# Altium schematic symbol library SOC_Carrier.SchLib: 9 symbols
Pins are listed as number, name and electrical type; pins without a type are passive.

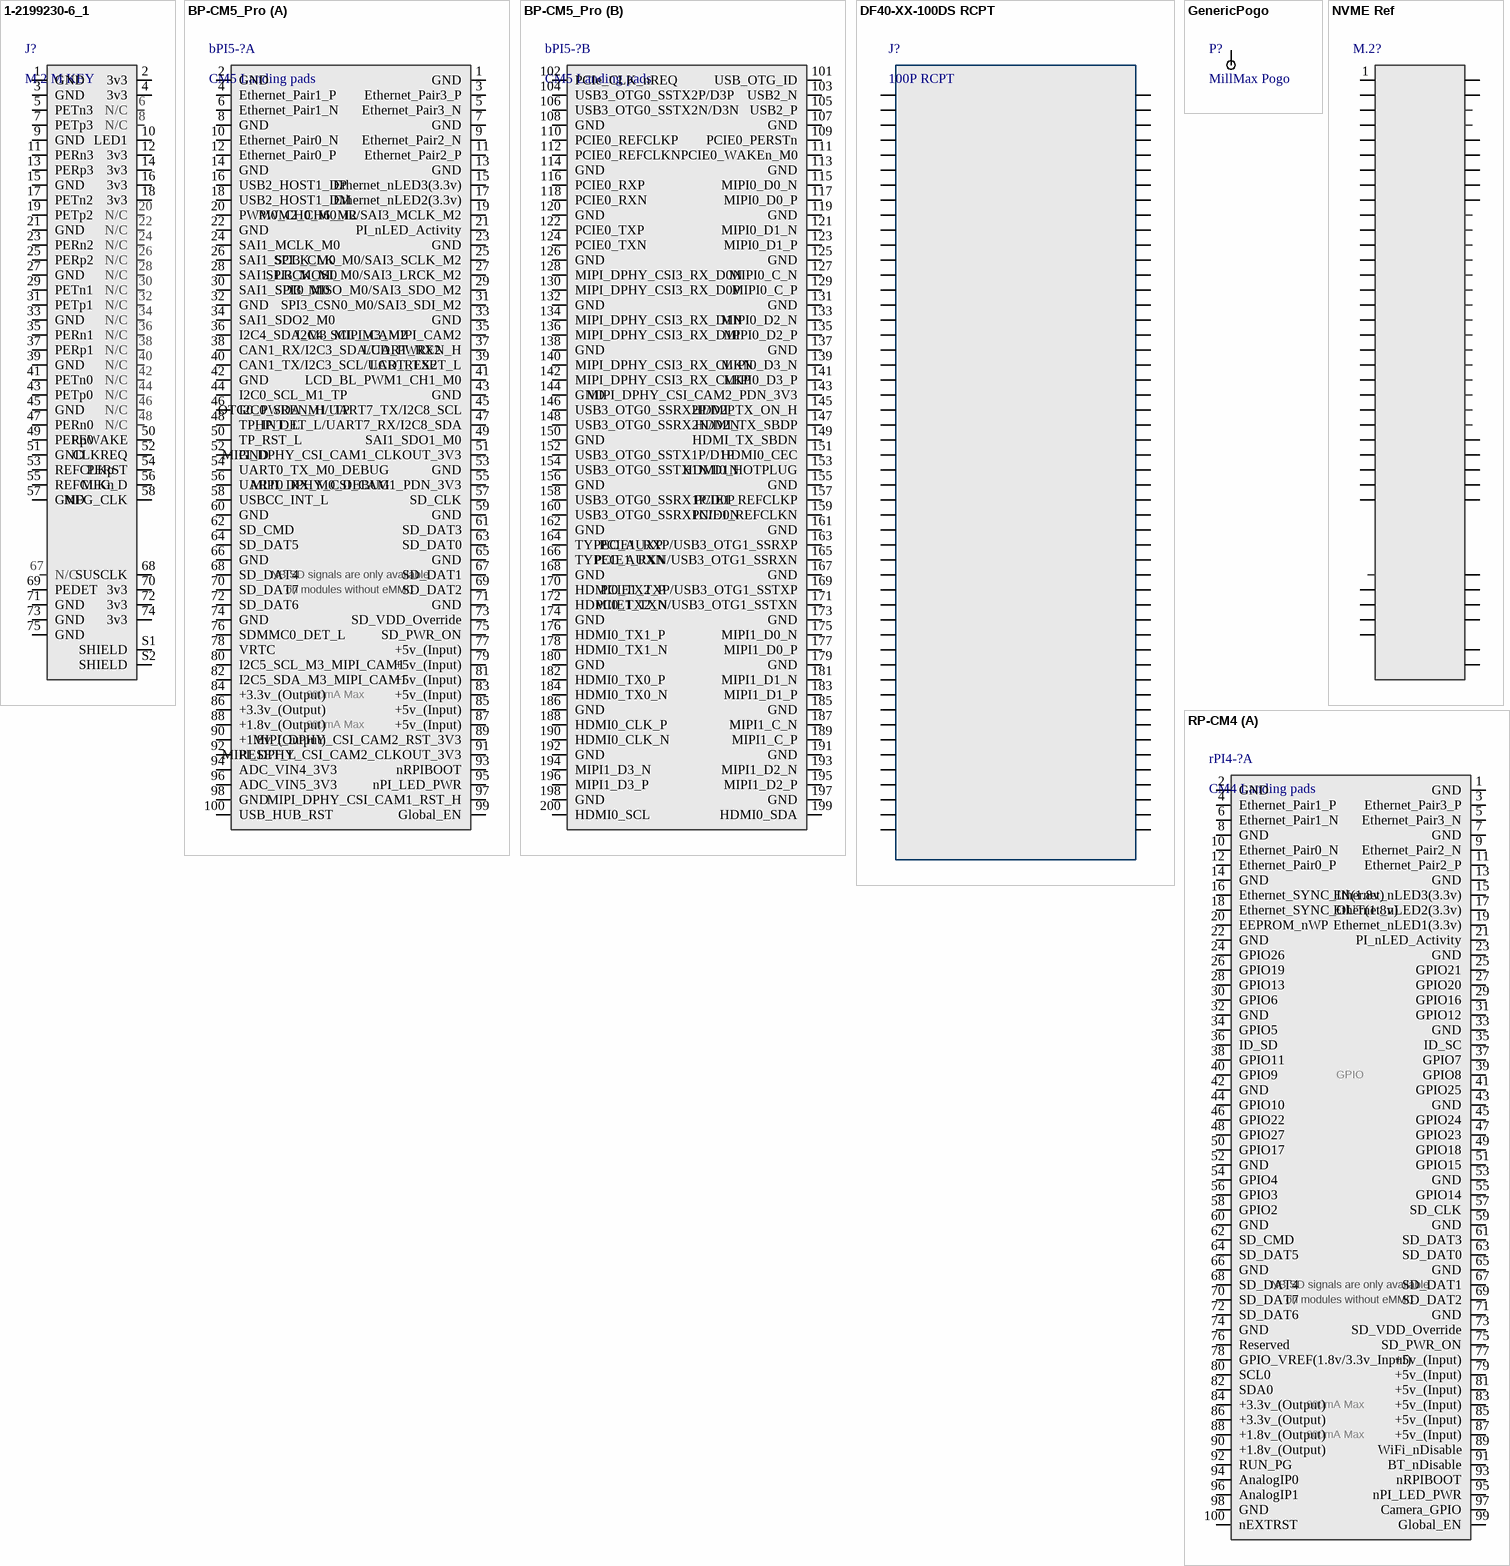
[diagram p0: symbols 1-2199230-6_1 to RP-CM4]

## 1-2199230-6_1
designator J?, comment M.2 M KEY
M.2 0.5PITCH 4.2H KEY M 30U AU; MF: TE Connectivity; MP: 1-2199230-6; Package: None; Digi-Key_Part_Number: A118046TR-ND; Purchase-URL: https://pricing.snapeda.com/search/part/1-2199230-6/?ref=eda; Check_prices: https://www.snapeda.com/parts/1-2199230-6/TE+Connectivity+AMP+Connectors/view-part/?ref=eda; SnapEDA_Link: https://www.snapeda.com/parts/1-2199230-6/TE+Connectivity+AMP+Connectors/view-part/?ref=snap; Value: *
footprint 1-2199230-6 (M.2, PCI-E, NVME, Socket-3)
pins: 1 GND, 2 3v3, 3 GND, 4 3v3, 5 PETn3, 6 N/C, 7 PETp3, 8 N/C, 9 GND, 10 LED1, 11 PERn3, 12 3v3, 13 PERp3, 14 3v3, 15 GND, 16 3v3, 17 PETn2, 18 3v3, 19 PETp2, 20 N/C, 21 GND, 22 N/C, 23 PERn2, 24 N/C, 25 PERp2, 26 N/C, 27 GND, 28 N/C, 29 PETn1, 30 N/C, 31 PETp1, 32 N/C, 33 GND, 34 N/C, 35 PERn1, 36 N/C, 37 PERp1, 38 N/C, 39 GND, 40 N/C, 41 PETn0, 42 N/C, 43 PETp0, 44 N/C, 45 GND, 46 N/C, 47 PERn0, 48 N/C, 49 PERp0, 50 PEWAKE, 51 GND, 52 CLKREQ, 53 REFCLKp, 54 PERST, 55 REFCLKn, 56 MFG_D, 57 GND, 58 MFG_CLK, 67 N/C, 68 SUSCLK, 69 PEDET, 70 3v3, 71 GND, 72 3v3, 73 GND, 74 3v3, 75 GND, S1 SHIELD, S2 SHIELD

## BP-CM5_Pro
designator bPI5-?, comment CM5 Landing pads
BananaPi Compute Module 5 Pro Footprint / Overlap Hirose 100P connector over pads to place actual components
footprint bP-200P-CM-FTPD (Landing-Pad for 200-pin compute modules)
part A pins: 1 GND, 2 GND, 3 Ethernet_Pair3_P, 4 Ethernet_Pair1_P, 5 Ethernet_Pair3_N, 6 Ethernet_Pair1_N, 7 GND, 8 GND, 9 Ethernet_Pair2_N, 10 Ethernet_Pair0_N, 11 Ethernet_Pair2_P, 12 Ethernet_Pair0_P, 13 GND, 14 GND, 15 Ethernet_nLED3(3.3v), 16 USB2_HOST1_DP, 17 Ethernet_nLED2(3.3v), 18 USB2_HOST1_DM, 19 PWM2_CH6_M2/SAI3_MCLK_M2, 20 PWM0_CH0_M0_IR, 21 PI_nLED_Activity, 22 GND, 23 GND, 24 SAI1_MCLK_M0, 25 SPI3_CLK_M0/SAI3_SCLK_M2, 26 SAI1_SCLK_M0, 27 SPI3_MOSI_M0/SAI3_LRCK_M2, 28 SAI1_LRCK_M0, 29 SPI3_MISO_M0/SAI3_SDO_M2, 30 SAI1_SDI0_M0, 31 SPI3_CSN0_M0/SAI3_SDI_M2, 32 GND, 33 GND, 34 SAI1_SDO2_M0, 35 I2C4_SCL_M3_MIPI_CAM2, 36 I2C4_SDA_M3_MIPI_CAM2, 37 LCD_PWREN_H, 38 CAN1_RX/I2C3_SDA/UART_RX2, 39 LCD_RESET_L, 40 CAN1_TX/I2C3_SCL/UART_TX2, 41 LCD_BL_PWM1_CH1_M0, 42 GND, 43 GND, 44 I2C0_SCL_M1_TP, 45 OTG0_PWREN_H/UART7_TX/I2C8_SCL, 46 I2C0_SDA_M1_TP, 47 HP_DET_L/UART7_RX/I2C8_SDA, 48 TP_INT_L, 49 SAI1_SDO1_M0, 50 TP_RST_L, 51 MIPI_DPHY_CSI_CAM1_CLKOUT_3V3, 52 GND, 53 GND, 54 UART0_TX_M0_DEBUG, 55 MIPI_DPHY_CSI_CAM1_PDN_3V3, 56 UART0_RX_M0_DEBUG, 57 SD_CLK, 58 USBCC_INT_L, 59 GND, 60 GND, 61 SD_DAT3, 62 SD_CMD, 63 SD_DAT0, 64 SD_DAT5, 65 GND, 66 GND, 67 SD_DAT1, 68 SD_DAT4, 69 SD_DAT2, 70 SD_DAT7, 71 GND, 72 SD_DAT6, 73 SD_VDD_Override, 74 GND, 75 SD_PWR_ON, 76 SDMMC0_DET_L, 77 +5v_(Input), 78 VRTC, 79 +5v_(Input), 80 I2C5_SCL_M3_MIPI_CAM1, 81 +5v_(Input), 82 I2C5_SDA_M3_MIPI_CAM1, 83 +5v_(Input), 84 +3.3v_(Output), 85 +5v_(Input), 86 +3.3v_(Output), 87 +5v_(Input), 88 +1.8v_(Output), 89 MIPI_DPHY_CSI_CAM2_RST_3V3, 90 +1.8v_(Output), 91 MIPI_DPHY_CSI_CAM2_CLKOUT_3V3, 92 RESET_L, 93 nRPIBOOT, 94 ADC_VIN4_3V3, 95 nPI_LED_PWR, 96 ADC_VIN5_3V3, 97 MIPI_DPHY_CSI_CAM1_RST_H, 98 GND, 99 Global_EN, 100 USB_HUB_RST
part B pins: 101 USB_OTG_ID, 102 PCIe_CLK_nREQ, 103 USB2_N, 104 USB3_OTG0_SSTX2P/D3P, 105 USB2_P, 106 USB3_OTG0_SSTX2N/D3N, 107 GND, 108 GND, 109 PCIE0_PERSTn, 110 PCIE0_REFCLKP, 111 PCIE0_WAKEn_M0, 112 PCIE0_REFCLKN, 113 GND, 114 GND, 115 MIPI0_D0_N, 116 PCIE0_RXP, 117 MIPI0_D0_P, 118 PCIE0_RXN, 119 GND, 120 GND, 121 MIPI0_D1_N, 122 PCIE0_TXP, 123 MIPI0_D1_P, 124 PCIE0_TXN, 125 GND, 126 GND, 127 MIPI0_C_N, 128 MIPI_DPHY_CSI3_RX_D0N, 129 MIPI0_C_P, 130 MIPI_DPHY_CSI3_RX_D0P, 131 GND, 132 GND, 133 MIPI0_D2_N, 134 MIPI_DPHY_CSI3_RX_D1N, 135 MIPI0_D2_P, 136 MIPI_DPHY_CSI3_RX_D1P, 137 GND, 138 GND, 139 MIPI0_D3_N, 140 MIPI_DPHY_CSI3_RX_CLKN, 141 MIPI0_D3_P, 142 MIPI_DPHY_CSI3_RX_CLKP, 143 MIPI_DPHY_CSI_CAM2_PDN_3V3, 144 GND, 145 HDMI_TX_ON_H, 146 USB3_OTG0_SSRX2P/D2P, 147 HDMI_TX_SBDP, 148 USB3_OTG0_SSRX2N/D2N, 149 HDMI_TX_SBDN, 150 GND, 151 HDMI0_CEC, 152 USB3_OTG0_SSTX1P/D1P, 153 HDMI0_HOTPLUG, 154 USB3_OTG0_SSTX1N/D1N, 155 GND, 156 GND, 157 PCIE1_REFCLKP, 158 USB3_OTG0_SSRX1P/D0P, 159 PCIE1_REFCLKN, 160 USB3_OTG0_SSRX1N/D0N, 161 GND, 162 GND, 163 PCIE1_RXP/USB3_OTG1_SSRXP, 164 TYPEC_AUXP, 165 PCIE1_RXN/USB3_OTG1_SSRXN, 166 TYPEC_AUXN, 167 GND, 168 GND, 169 PCIE1_TXP/USB3_OTG1_SSTXP, 170 HDMI0_TX2_P, 171 PCIE1_TXN/USB3_OTG1_SSTXN, 172 HDMI0_TX2_N, 173 GND, 174 GND, 175 MIPI1_D0_N, 176 HDMI0_TX1_P, 177 MIPI1_D0_P, 178 HDMI0_TX1_N, 179 GND, 180 GND, 181 MIPI1_D1_N, 182 HDMI0_TX0_P, 183 MIPI1_D1_P, 184 HDMI0_TX0_N, 185 GND, 186 GND, 187 MIPI1_C_N, 188 HDMI0_CLK_P, 189 MIPI1_C_P, 190 HDMI0_CLK_N, 191 GND, 192 GND, 193 MIPI1_D2_N, 194 MIPI1_D3_N, 195 MIPI1_D2_P, 196 MIPI1_D3_P, 197 GND, 198 GND, 199 HDMI0_SDA, 200 HDMI0_SCL
part A text: NB SD signals are only available; on modules without eMMC; 600mA Max

## DF40-XX-100DS RCPT
designator J?, comment 100P RCPT
100 Position Connector Receptacle, Center Strip Contacts Surface Mount Gold; MF: Hirose; MP: DF40C-100DS-0.4V(51); SnapEDA_Link: https://www.snapeda.com/parts/DF40C-100DS-0.4V(51)/Hirose/view-part/?ref=snap; Package: None; Value: *; Check_prices: https://www.snapeda.com/parts/DF40C-100DS-0.4V(51)/Hirose/view-part/?ref=eda; LCSC PN: C597931; Supplier 1: Avnet; Supplier Part Number 1: DF40C-100DS-0.4V(5; Supplier 2: Digikey; Supplier Part Number 2: 26-DF40HC(3.0)-100DS-0.4V(51)CT-ND
footprint DF40HC(3.0)-100DS-0.4V(51) (Hirose 100pos RCPT (Tall))
footprint DF40C-100DS-0.4V(51) (Hirose 100pos RCPT (Short))
pins: 1, 2, 3, 4, 5, 6, 7, 8, 9, 10, 11, 12, 13, 14, 15, 16, 17, 18, 19, 20, 21, 22, 23, 24, 25, 26, 27, 28, 29, 30, 31, 32, 33, 34, 35, 36, 37, 38, 39, 40, 41, 42, 43, 44, 45, 46, 47, 48, 49, 50, 51, 52, 53, 54, 55, 56, 57, 58, 59, 60, 61, 62, 63, 64, 65, 66, 67, 68, 69, 70, 71, 72, 73, 74, 75, 76, 77, 78, 79, 80, 81, 82, 83, 84, 85, 86, 87, 88, 89, 90, 91, 92, 93, 94, 95, 96, 97, 98, 99, 100

## GenericPogo
designator P?, comment MillMax Pogo
MillMax Pogo Pins/Probes
footprint 0908-6-15-20-75-14-11-0 (.370", 0.055" Stroke)
footprint 0908-7-15-20-75-14-11-0 (.390", 0.055" Stroke)
footprint 0914-1-15-20-77-14-11-0 (.304"+0.016" flange + 0.028" riser, 0.09" Stroke)
footprint 0914-2-15-20-77-14-11-0 (.334"+0.016" flange + 0.028" riser, 0.09" Stroke)
footprint 0914-3-15-20-77-14-11-0 (.364"+0.016" flange + 0.028" riser, 0.09" Stroke)
pins: 1

## NVME Ref
designator M.2?  (value not drawn)
Overlay pads w/ 1-2199230-6 / Use standoff for mounting screws
footprint NVME-Ref (Reference pads for NVME drive & screws)
pins: 1 GND, 2 3v3, 3 GND, 4 3v3, 5 PETn3, 6 N/C, 7 PETp3, 8 N/C, 9 GND, 10 LED1, 11 PERn3, 12 3v3, 13 PERp3, 14 3v3, 15 GND, 16 3v3, 17 PETn2, 18 3v3, 19 PETp2, 20 N/C, 21 GND, 22 N/C, 23 PERn2, 24 N/C, 25 PERp2, 26 N/C, 27 GND, 28 N/C, 29 PETn1, 30 N/C, 31 PETp1, 32 N/C, 33 GND, 34 N/C, 35 PERn1, 36 N/C, 37 PERp1, 38 N/C, 39 GND, 40 N/C, 41 PETn0, 42 N/C, 43 PETp0, 44 N/C, 45 GND, 46 N/C, 47 PERn0, 48 N/C, 49 PERp0, 50 PEWAKE, 51 GND, 52 CLKREQ, 53 REFCLKp, 54 PERST, 55 REFCLKn, 56 MFG_D, 57 GND, 58 MFG_CLK, 67 N/C, 68 SUSCLK, 69 PEDET, 70 3v3, 71 GND, 72 3v3, 73 GND, 74 3v3, 75 GND, S1 SHIELD, S2 SHIELD, SHD SHIELD

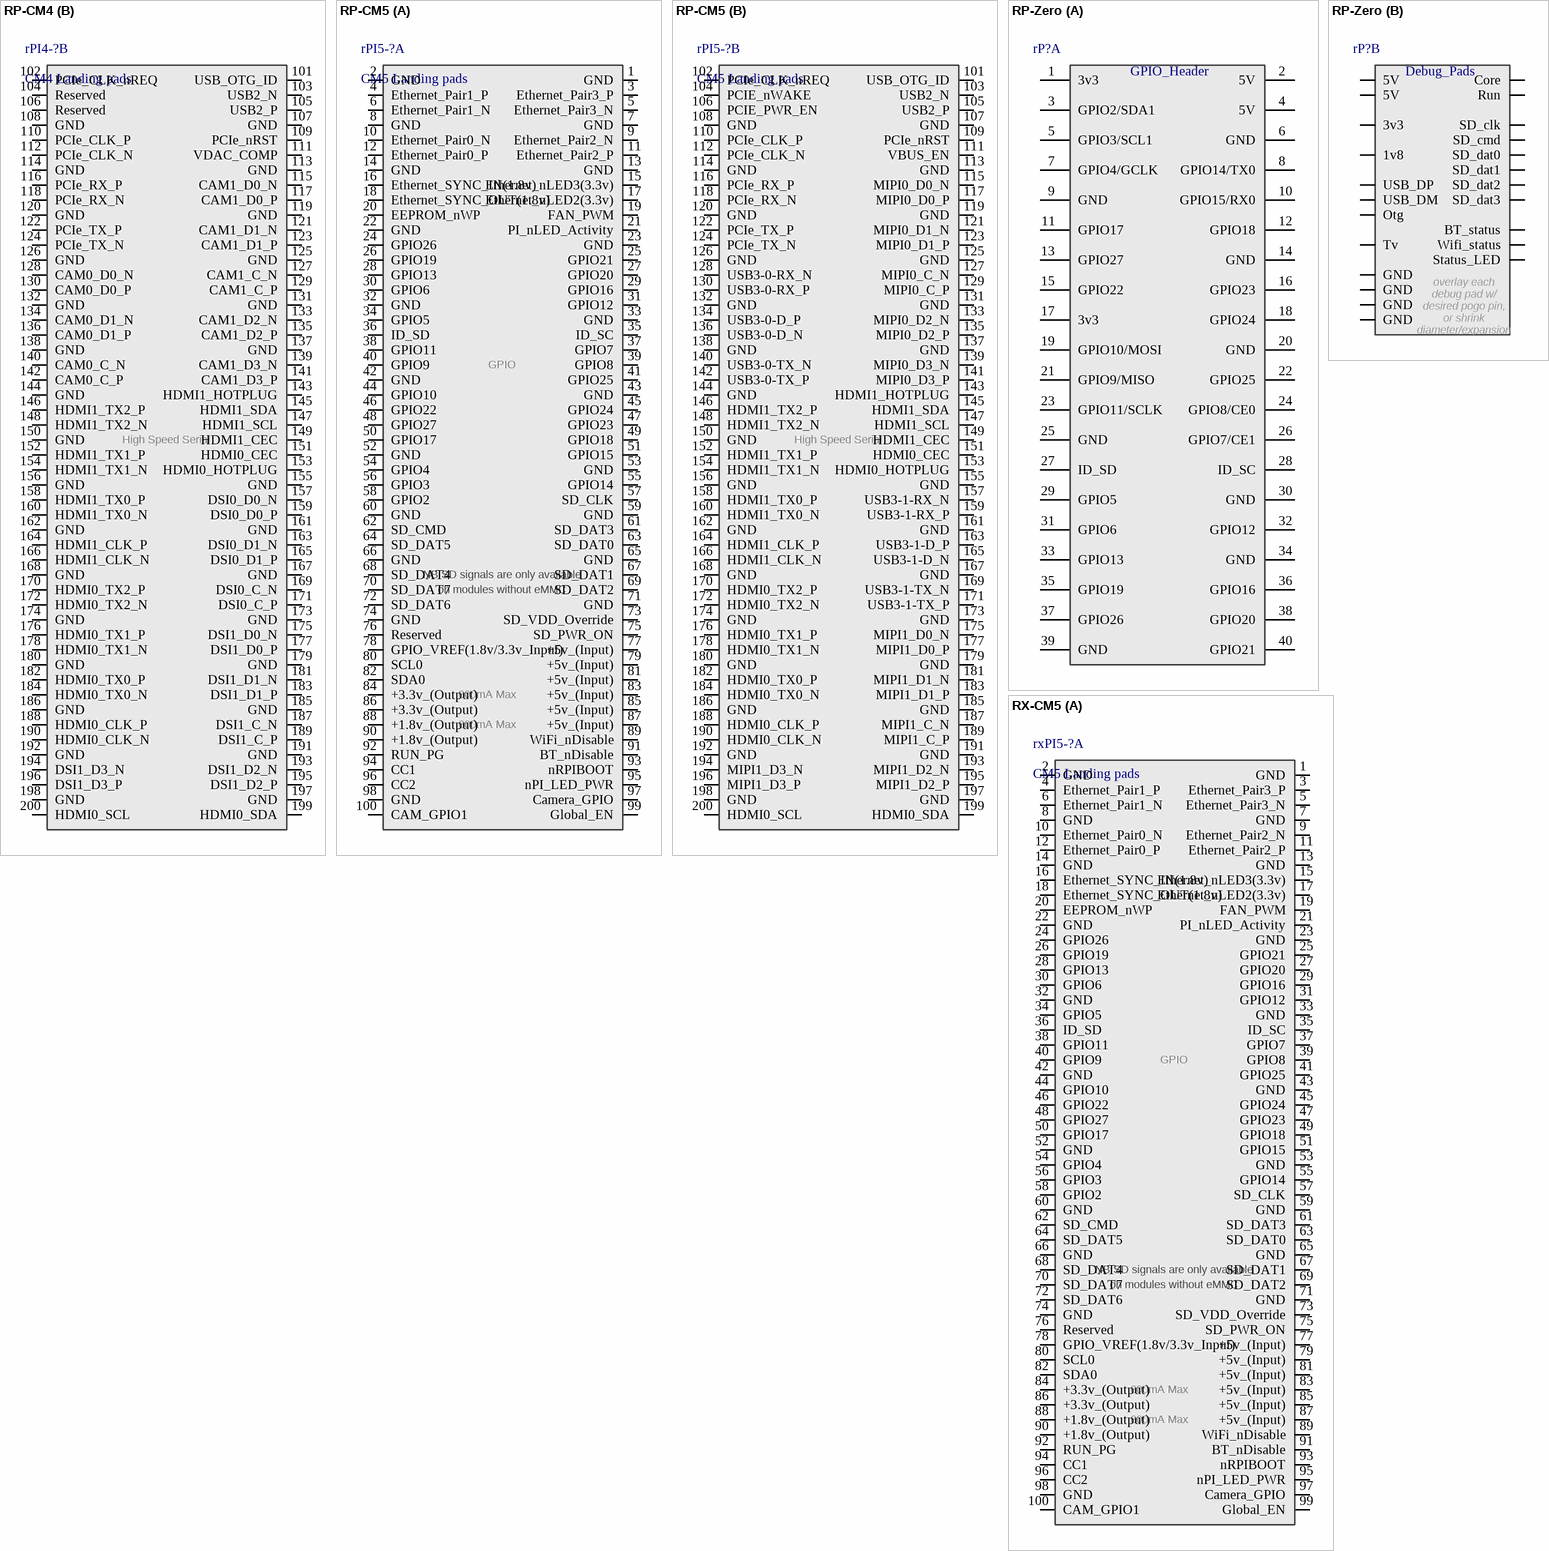
[diagram p1: symbols RP-CM4 to RX-CM5]

## RP-CM4
designator rPI4-?, comment CM4 Landing pads
Compute Module 4 Footprint / Sourced from https://github.com/ShawnHymel/rpi-cm4-base-carrier / Overlap Hirose 100P connector over pads to place actual components
footprint rP-200P-CM-FTPD (Landing-Pad for 200-pin compute modules)
part A pins: 1 GND, 2 GND, 3 Ethernet_Pair3_P, 4 Ethernet_Pair1_P, 5 Ethernet_Pair3_N, 6 Ethernet_Pair1_N, 7 GND, 8 GND, 9 Ethernet_Pair2_N, 10 Ethernet_Pair0_N, 11 Ethernet_Pair2_P, 12 Ethernet_Pair0_P, 13 GND, 14 GND, 15 Ethernet_nLED3(3.3v), 16 Ethernet_SYNC_IN(1.8v), 17 Ethernet_nLED2(3.3v), 18 Ethernet_SYNC_OUT(1.8v), 19 Ethernet_nLED1(3.3v), 20 EEPROM_nWP, 21 PI_nLED_Activity, 22 GND, 23 GND, 24 GPIO26, 25 GPIO21, 26 GPIO19, 27 GPIO20, 28 GPIO13, 29 GPIO16, 30 GPIO6, 31 GPIO12, 32 GND, 33 GND, 34 GPIO5, 35 ID_SC, 36 ID_SD, 37 GPIO7, 38 GPIO11, 39 GPIO8, 40 GPIO9, 41 GPIO25, 42 GND, 43 GND, 44 GPIO10, 45 GPIO24, 46 GPIO22, 47 GPIO23, 48 GPIO27, 49 GPIO18, 50 GPIO17, 51 GPIO15, 52 GND, 53 GND, 54 GPIO4, 55 GPIO14, 56 GPIO3, 57 SD_CLK, 58 GPIO2, 59 GND, 60 GND, 61 SD_DAT3, 62 SD_CMD, 63 SD_DAT0, 64 SD_DAT5, 65 GND, 66 GND, 67 SD_DAT1, 68 SD_DAT4, 69 SD_DAT2, 70 SD_DAT7, 71 GND, 72 SD_DAT6, 73 SD_VDD_Override, 74 GND, 75 SD_PWR_ON, 76 Reserved, 77 +5v_(Input), 78 GPIO_VREF(1.8v/3.3v_Input), 79 +5v_(Input), 80 SCL0, 81 +5v_(Input), 82 SDA0, 83 +5v_(Input), 84 +3.3v_(Output), 85 +5v_(Input), 86 +3.3v_(Output), 87 +5v_(Input), 88 +1.8v_(Output), 89 WiFi_nDisable, 90 +1.8v_(Output), 91 BT_nDisable, 92 RUN_PG, 93 nRPIBOOT, 94 AnalogIP0, 95 nPI_LED_PWR, 96 AnalogIP1, 97 Camera_GPIO, 98 GND, 99 Global_EN, 100 nEXTRST
part B pins: 101 USB_OTG_ID, 102 PCIe_CLK_nREQ, 103 USB2_N, 104 Reserved, 105 USB2_P, 106 Reserved, 107 GND, 108 GND, 109 PCIe_nRST, 110 PCIe_CLK_P, 111 VDAC_COMP, 112 PCIe_CLK_N, 113 GND, 114 GND, 115 CAM1_D0_N, 116 PCIe_RX_P, 117 CAM1_D0_P, 118 PCIe_RX_N, 119 GND, 120 GND, 121 CAM1_D1_N, 122 PCIe_TX_P, 123 CAM1_D1_P, 124 PCIe_TX_N, 125 GND, 126 GND, 127 CAM1_C_N, 128 CAM0_D0_N, 129 CAM1_C_P, 130 CAM0_D0_P, 131 GND, 132 GND, 133 CAM1_D2_N, 134 CAM0_D1_N, 135 CAM1_D2_P, 136 CAM0_D1_P, 137 GND, 138 GND, 139 CAM1_D3_N, 140 CAM0_C_N, 141 CAM1_D3_P, 142 CAM0_C_P, 143 HDMI1_HOTPLUG, 144 GND, 145 HDMI1_SDA, 146 HDMI1_TX2_P, 147 HDMI1_SCL, 148 HDMI1_TX2_N, 149 HDMI1_CEC, 150 GND, 151 HDMI0_CEC, 152 HDMI1_TX1_P, 153 HDMI0_HOTPLUG, 154 HDMI1_TX1_N, 155 GND, 156 GND, 157 DSI0_D0_N, 158 HDMI1_TX0_P, 159 DSI0_D0_P, 160 HDMI1_TX0_N, 161 GND, 162 GND, 163 DSI0_D1_N, 164 HDMI1_CLK_P, 165 DSI0_D1_P, 166 HDMI1_CLK_N, 167 GND, 168 GND, 169 DSI0_C_N, 170 HDMI0_TX2_P, 171 DSI0_C_P, 172 HDMI0_TX2_N, 173 GND, 174 GND, 175 DSI1_D0_N, 176 HDMI0_TX1_P, 177 DSI1_D0_P, 178 HDMI0_TX1_N, 179 GND, 180 GND, 181 DSI1_D1_N, 182 HDMI0_TX0_P, 183 DSI1_D1_P, 184 HDMI0_TX0_N, 185 GND, 186 GND, 187 DSI1_C_N, 188 HDMI0_CLK_P, 189 DSI1_C_P, 190 HDMI0_CLK_N, 191 GND, 192 GND, 193 DSI1_D2_N, 194 DSI1_D3_N, 195 DSI1_D2_P, 196 DSI1_D3_P, 197 GND, 198 GND, 199 HDMI0_SDA, 200 HDMI0_SCL
part A text: GPIO; NB SD signals are only available; on modules without eMMC; 600mA Max
part B text: High Speed Serial

## RP-CM5
designator rPI5-?, comment CM5 Landing pads
Compute Module 5 Footprint / Overlap Hirose 100P connector over pads to place actual components
footprint rP-200P-CM-FTPD (Landing-Pad for 200-pin compute modules)
part A pins: 1 GND, 2 GND, 3 Ethernet_Pair3_P, 4 Ethernet_Pair1_P, 5 Ethernet_Pair3_N, 6 Ethernet_Pair1_N, 7 GND, 8 GND, 9 Ethernet_Pair2_N, 10 Ethernet_Pair0_N, 11 Ethernet_Pair2_P, 12 Ethernet_Pair0_P, 13 GND, 14 GND, 15 Ethernet_nLED3(3.3v), 16 Ethernet_SYNC_IN(1.8v), 17 Ethernet_nLED2(3.3v), 18 Ethernet_SYNC_OUT(1.8v), 19 FAN_PWM, 20 EEPROM_nWP, 21 PI_nLED_Activity, 22 GND, 23 GND, 24 GPIO26, 25 GPIO21, 26 GPIO19, 27 GPIO20, 28 GPIO13, 29 GPIO16, 30 GPIO6, 31 GPIO12, 32 GND, 33 GND, 34 GPIO5, 35 ID_SC, 36 ID_SD, 37 GPIO7, 38 GPIO11, 39 GPIO8, 40 GPIO9, 41 GPIO25, 42 GND, 43 GND, 44 GPIO10, 45 GPIO24, 46 GPIO22, 47 GPIO23, 48 GPIO27, 49 GPIO18, 50 GPIO17, 51 GPIO15, 52 GND, 53 GND, 54 GPIO4, 55 GPIO14, 56 GPIO3, 57 SD_CLK, 58 GPIO2, 59 GND, 60 GND, 61 SD_DAT3, 62 SD_CMD, 63 SD_DAT0, 64 SD_DAT5, 65 GND, 66 GND, 67 SD_DAT1, 68 SD_DAT4, 69 SD_DAT2, 70 SD_DAT7, 71 GND, 72 SD_DAT6, 73 SD_VDD_Override, 74 GND, 75 SD_PWR_ON, 76 Reserved, 77 +5v_(Input), 78 GPIO_VREF(1.8v/3.3v_Input), 79 +5v_(Input), 80 SCL0, 81 +5v_(Input), 82 SDA0, 83 +5v_(Input), 84 +3.3v_(Output), 85 +5v_(Input), 86 +3.3v_(Output), 87 +5v_(Input), 88 +1.8v_(Output), 89 WiFi_nDisable, 90 +1.8v_(Output), 91 BT_nDisable, 92 RUN_PG, 93 nRPIBOOT, 94 CC1, 95 nPI_LED_PWR, 96 CC2, 97 Camera_GPIO, 98 GND, 99 Global_EN, 100 CAM_GPIO1
part B pins: 101 USB_OTG_ID, 102 PCIe_CLK_nREQ, 103 USB2_N, 104 PCIE_nWAKE, 105 USB2_P, 106 PCIE_PWR_EN, 107 GND, 108 GND, 109 PCIe_nRST, 110 PCIe_CLK_P, 111 VBUS_EN, 112 PCIe_CLK_N, 113 GND, 114 GND, 115 MIPI0_D0_N, 116 PCIe_RX_P, 117 MIPI0_D0_P, 118 PCIe_RX_N, 119 GND, 120 GND, 121 MIPI0_D1_N, 122 PCIe_TX_P, 123 MIPI0_D1_P, 124 PCIe_TX_N, 125 GND, 126 GND, 127 MIPI0_C_N, 128 USB3-0-RX_N, 129 MIPI0_C_P, 130 USB3-0-RX_P, 131 GND, 132 GND, 133 MIPI0_D2_N, 134 USB3-0-D_P, 135 MIPI0_D2_P, 136 USB3-0-D_N, 137 GND, 138 GND, 139 MIPI0_D3_N, 140 USB3-0-TX_N, 141 MIPI0_D3_P, 142 USB3-0-TX_P, 143 HDMI1_HOTPLUG, 144 GND, 145 HDMI1_SDA, 146 HDMI1_TX2_P, 147 HDMI1_SCL, 148 HDMI1_TX2_N, 149 HDMI1_CEC, 150 GND, 151 HDMI0_CEC, 152 HDMI1_TX1_P, 153 HDMI0_HOTPLUG, 154 HDMI1_TX1_N, 155 GND, 156 GND, 157 USB3-1-RX_N, 158 HDMI1_TX0_P, 159 USB3-1-RX_P, 160 HDMI1_TX0_N, 161 GND, 162 GND, 163 USB3-1-D_P, 164 HDMI1_CLK_P, 165 USB3-1-D_N, 166 HDMI1_CLK_N, 167 GND, 168 GND, 169 USB3-1-TX_N, 170 HDMI0_TX2_P, 171 USB3-1-TX_P, 172 HDMI0_TX2_N, 173 GND, 174 GND, 175 MIPI1_D0_N, 176 HDMI0_TX1_P, 177 MIPI1_D0_P, 178 HDMI0_TX1_N, 179 GND, 180 GND, 181 MIPI1_D1_N, 182 HDMI0_TX0_P, 183 MIPI1_D1_P, 184 HDMI0_TX0_N, 185 GND, 186 GND, 187 MIPI1_C_N, 188 HDMI0_CLK_P, 189 MIPI1_C_P, 190 HDMI0_CLK_N, 191 GND, 192 GND, 193 MIPI1_D2_N, 194 MIPI1_D3_N, 195 MIPI1_D2_P, 196 MIPI1_D3_P, 197 GND, 198 GND, 199 HDMI0_SDA, 200 HDMI0_SCL
part A text: GPIO; NB SD signals are only available; on modules without eMMC; 600mA Max
part B text: High Speed Serial

## RP-Zero
designator rP?, comment rPi Zero Carrier  (value not drawn)
Raspberry Pi Zero/W/2W / Header, debug-pads, & mounting
footprint rPiZero (Raspberry Pi Zero/W/2W, pinout, debug, pads)
part A pins: 1 3v3, 2 5V, 3 GPIO2/SDA1, 4 5V, 5 GPIO3/SCL1, 6 GND, 7 GPIO4/GCLK, 8 GPIO14/TX0, 9 GND, 10 GPIO15/RX0, 11 GPIO17, 12 GPIO18, 13 GPIO27, 14 GND, 15 GPIO22, 16 GPIO23, 17 3v3, 18 GPIO24, 19 GPIO10/MOSI, 20 GND, 21 GPIO9/MISO, 22 GPIO25, 23 GPIO11/SCLK, 24 GPIO8/CE0, 25 GND, 26 GPIO7/CE1, 27 ID_SD, 28 ID_SC, 29 GPIO5, 30 GND, 31 GPIO6, 32 GPIO12, 33 GPIO13, 34 GND, 35 GPIO19, 36 GPIO16, 37 GPIO26, 38 GPIO20, 39 GND, 40 GPIO21
part B pins: 1V8 1v8, 3V3 3v3, 5V1 5V, 5V2 5V, BT_ON BT_status, CORE Core, G1 GND, G2 GND, G3 GND, G4 GND, OTG Otg, RUN Run, SD_CLK SD_clk, SD_CMD SD_cmd, SD_DAT0 SD_dat0, SD_DAT1 SD_dat1, SD_DAT2 SD_dat2, SD_DAT3 SD_dat3, STATUS Status_LED, TV Tv, USB_DM, USB_DP, WL_ON Wifi_status
part A text: GPIO_Header
part B text: Debug_Pads; overlay each debug pad w/ desired pogo pin, or shrink diameter/expansion to zero to suppress it

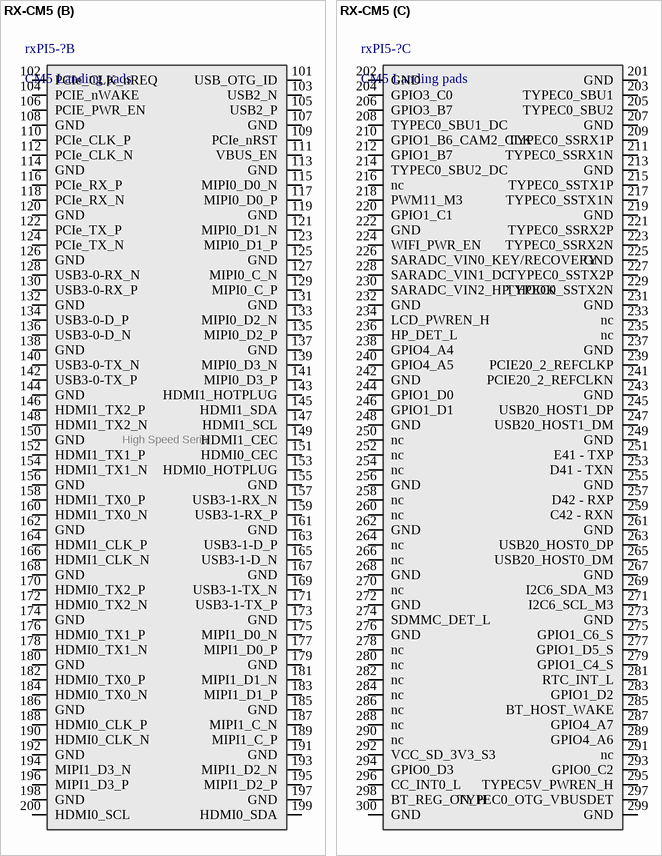
[diagram p2: symbol RX-CM5]

## RX-CM5
designator rxPI5-?, comment CM5 Landing pads
Radxa Compute Module 5 Footprint / Overlap Hirose 100P connector over pads to place actual components
footprint RX-300P-CM-FTPD (Landing-Pad for 300-pin radxa compute modules)
part A pins: 1 GND, 2 GND, 3 Ethernet_Pair3_P, 4 Ethernet_Pair1_P, 5 Ethernet_Pair3_N, 6 Ethernet_Pair1_N, 7 GND, 8 GND, 9 Ethernet_Pair2_N, 10 Ethernet_Pair0_N, 11 Ethernet_Pair2_P, 12 Ethernet_Pair0_P, 13 GND, 14 GND, 15 Ethernet_nLED3(3.3v), 16 Ethernet_SYNC_IN(1.8v), 17 Ethernet_nLED2(3.3v), 18 Ethernet_SYNC_OUT(1.8v), 19 FAN_PWM, 20 EEPROM_nWP, 21 PI_nLED_Activity, 22 GND, 23 GND, 24 GPIO26, 25 GPIO21, 26 GPIO19, 27 GPIO20, 28 GPIO13, 29 GPIO16, 30 GPIO6, 31 GPIO12, 32 GND, 33 GND, 34 GPIO5, 35 ID_SC, 36 ID_SD, 37 GPIO7, 38 GPIO11, 39 GPIO8, 40 GPIO9, 41 GPIO25, 42 GND, 43 GND, 44 GPIO10, 45 GPIO24, 46 GPIO22, 47 GPIO23, 48 GPIO27, 49 GPIO18, 50 GPIO17, 51 GPIO15, 52 GND, 53 GND, 54 GPIO4, 55 GPIO14, 56 GPIO3, 57 SD_CLK, 58 GPIO2, 59 GND, 60 GND, 61 SD_DAT3, 62 SD_CMD, 63 SD_DAT0, 64 SD_DAT5, 65 GND, 66 GND, 67 SD_DAT1, 68 SD_DAT4, 69 SD_DAT2, 70 SD_DAT7, 71 GND, 72 SD_DAT6, 73 SD_VDD_Override, 74 GND, 75 SD_PWR_ON, 76 Reserved, 77 +5v_(Input), 78 GPIO_VREF(1.8v/3.3v_Input), 79 +5v_(Input), 80 SCL0, 81 +5v_(Input), 82 SDA0, 83 +5v_(Input), 84 +3.3v_(Output), 85 +5v_(Input), 86 +3.3v_(Output), 87 +5v_(Input), 88 +1.8v_(Output), 89 WiFi_nDisable, 90 +1.8v_(Output), 91 BT_nDisable, 92 RUN_PG, 93 nRPIBOOT, 94 CC1, 95 nPI_LED_PWR, 96 CC2, 97 Camera_GPIO, 98 GND, 99 Global_EN, 100 CAM_GPIO1
part B pins: 101 USB_OTG_ID, 102 PCIe_CLK_nREQ, 103 USB2_N, 104 PCIE_nWAKE, 105 USB2_P, 106 PCIE_PWR_EN, 107 GND, 108 GND, 109 PCIe_nRST, 110 PCIe_CLK_P, 111 VBUS_EN, 112 PCIe_CLK_N, 113 GND, 114 GND, 115 MIPI0_D0_N, 116 PCIe_RX_P, 117 MIPI0_D0_P, 118 PCIe_RX_N, 119 GND, 120 GND, 121 MIPI0_D1_N, 122 PCIe_TX_P, 123 MIPI0_D1_P, 124 PCIe_TX_N, 125 GND, 126 GND, 127 MIPI0_C_N, 128 USB3-0-RX_N, 129 MIPI0_C_P, 130 USB3-0-RX_P, 131 GND, 132 GND, 133 MIPI0_D2_N, 134 USB3-0-D_P, 135 MIPI0_D2_P, 136 USB3-0-D_N, 137 GND, 138 GND, 139 MIPI0_D3_N, 140 USB3-0-TX_N, 141 MIPI0_D3_P, 142 USB3-0-TX_P, 143 HDMI1_HOTPLUG, 144 GND, 145 HDMI1_SDA, 146 HDMI1_TX2_P, 147 HDMI1_SCL, 148 HDMI1_TX2_N, 149 HDMI1_CEC, 150 GND, 151 HDMI0_CEC, 152 HDMI1_TX1_P, 153 HDMI0_HOTPLUG, 154 HDMI1_TX1_N, 155 GND, 156 GND, 157 USB3-1-RX_N, 158 HDMI1_TX0_P, 159 USB3-1-RX_P, 160 HDMI1_TX0_N, 161 GND, 162 GND, 163 USB3-1-D_P, 164 HDMI1_CLK_P, 165 USB3-1-D_N, 166 HDMI1_CLK_N, 167 GND, 168 GND, 169 USB3-1-TX_N, 170 HDMI0_TX2_P, 171 USB3-1-TX_P, 172 HDMI0_TX2_N, 173 GND, 174 GND, 175 MIPI1_D0_N, 176 HDMI0_TX1_P, 177 MIPI1_D0_P, 178 HDMI0_TX1_N, 179 GND, 180 GND, 181 MIPI1_D1_N, 182 HDMI0_TX0_P, 183 MIPI1_D1_P, 184 HDMI0_TX0_N, 185 GND, 186 GND, 187 MIPI1_C_N, 188 HDMI0_CLK_P, 189 MIPI1_C_P, 190 HDMI0_CLK_N, 191 GND, 192 GND, 193 MIPI1_D2_N, 194 MIPI1_D3_N, 195 MIPI1_D2_P, 196 MIPI1_D3_P, 197 GND, 198 GND, 199 HDMI0_SDA, 200 HDMI0_SCL
part C pins: 201 GND, 202 GND, 203 TYPEC0_SBU1, 204 GPIO3_C0, 205 TYPEC0_SBU2, 206 GPIO3_B7, 207 GND, 208 TYPEC0_SBU1_DC, 209 TYPEC0_SSRX1P, 210 GPIO1_B6_CAM2_CLK, 211 TYPEC0_SSRX1N, 212 GPIO1_B7, 213 GND, 214 TYPEC0_SBU2_DC, 215 TYPEC0_SSTX1P, 216 nc, 217 TYPEC0_SSTX1N, 218 PWM11_M3, 219 GND, 220 GPIO1_C1, 221 TYPEC0_SSRX2P, 222 GND, 223 TYPEC0_SSRX2N, 224 WIFI_PWR_EN, 225 GND, 226 SARADC_VIN0_KEY/RECOVERY, 227 TYPEC0_SSTX2P, 228 SARADC_VIN1_DC, 229 TYPEC0_SSTX2N, 230 SARADC_VIN2_HP_HOOK, 231 GND, 232 GND, 233 nc, 234 LCD_PWREN_H, 235 nc, 236 HP_DET_L, 237 GND, 238 GPIO4_A4, 239 PCIE20_2_REFCLKP, 240 GPIO4_A5, 241 PCIE20_2_REFCLKN, 242 GND, 243 GND, 244 GPIO1_D0, 245 USB20_HOST1_DP, 246 GPIO1_D1, 247 USB20_HOST1_DM, 248 GND, 249 GND, 250 nc, 251 E41 - TXP, 252 nc, 253 D41 - TXN, 254 nc, 255 GND, 256 GND, 257 D42 - RXP, 258 nc, 259 C42 - RXN, 260 nc, 261 GND, 262 GND, 263 USB20_HOST0_DP, 264 nc, 265 USB20_HOST0_DM, 266 nc, 267 GND, 268 GND, 269 I2C6_SDA_M3, 270 nc, 271 I2C6_SCL_M3, 272 GND, 273 GND, 274 SDMMC_DET_L, 275 GPIO1_C6_S, 276 GND, 277 GPIO1_D5_S, 278 nc, 279 GPIO1_C4_S, 280 nc, 281 RTC_INT_L, 282 nc, 283 GPIO1_D2, 284 nc, 285 BT_HOST_WAKE, 286 nc, 287 GPIO4_A7, 288 nc, 289 GPIO4_A6, 290 nc, 291 nc, 292 VCC_SD_3V3_S3, 293 GPIO0_C2, 294 GPIO0_D3, 295 TYPEC5V_PWREN_H, 296 CC_INT0_L, 297 TYPEC0_OTG_VBUSDET, 298 BT_REG_ON_H, 299 GND, 300 GND
part A text: GPIO; NB SD signals are only available; on modules without eMMC; 600mA Max
part B text: High Speed Serial